# Altium schematic symbol library 2008_SablierElectronique_SCHLIB.SchLib: 24 symbols
Pins are listed as number, name and electrical type; pins without a type are passive.

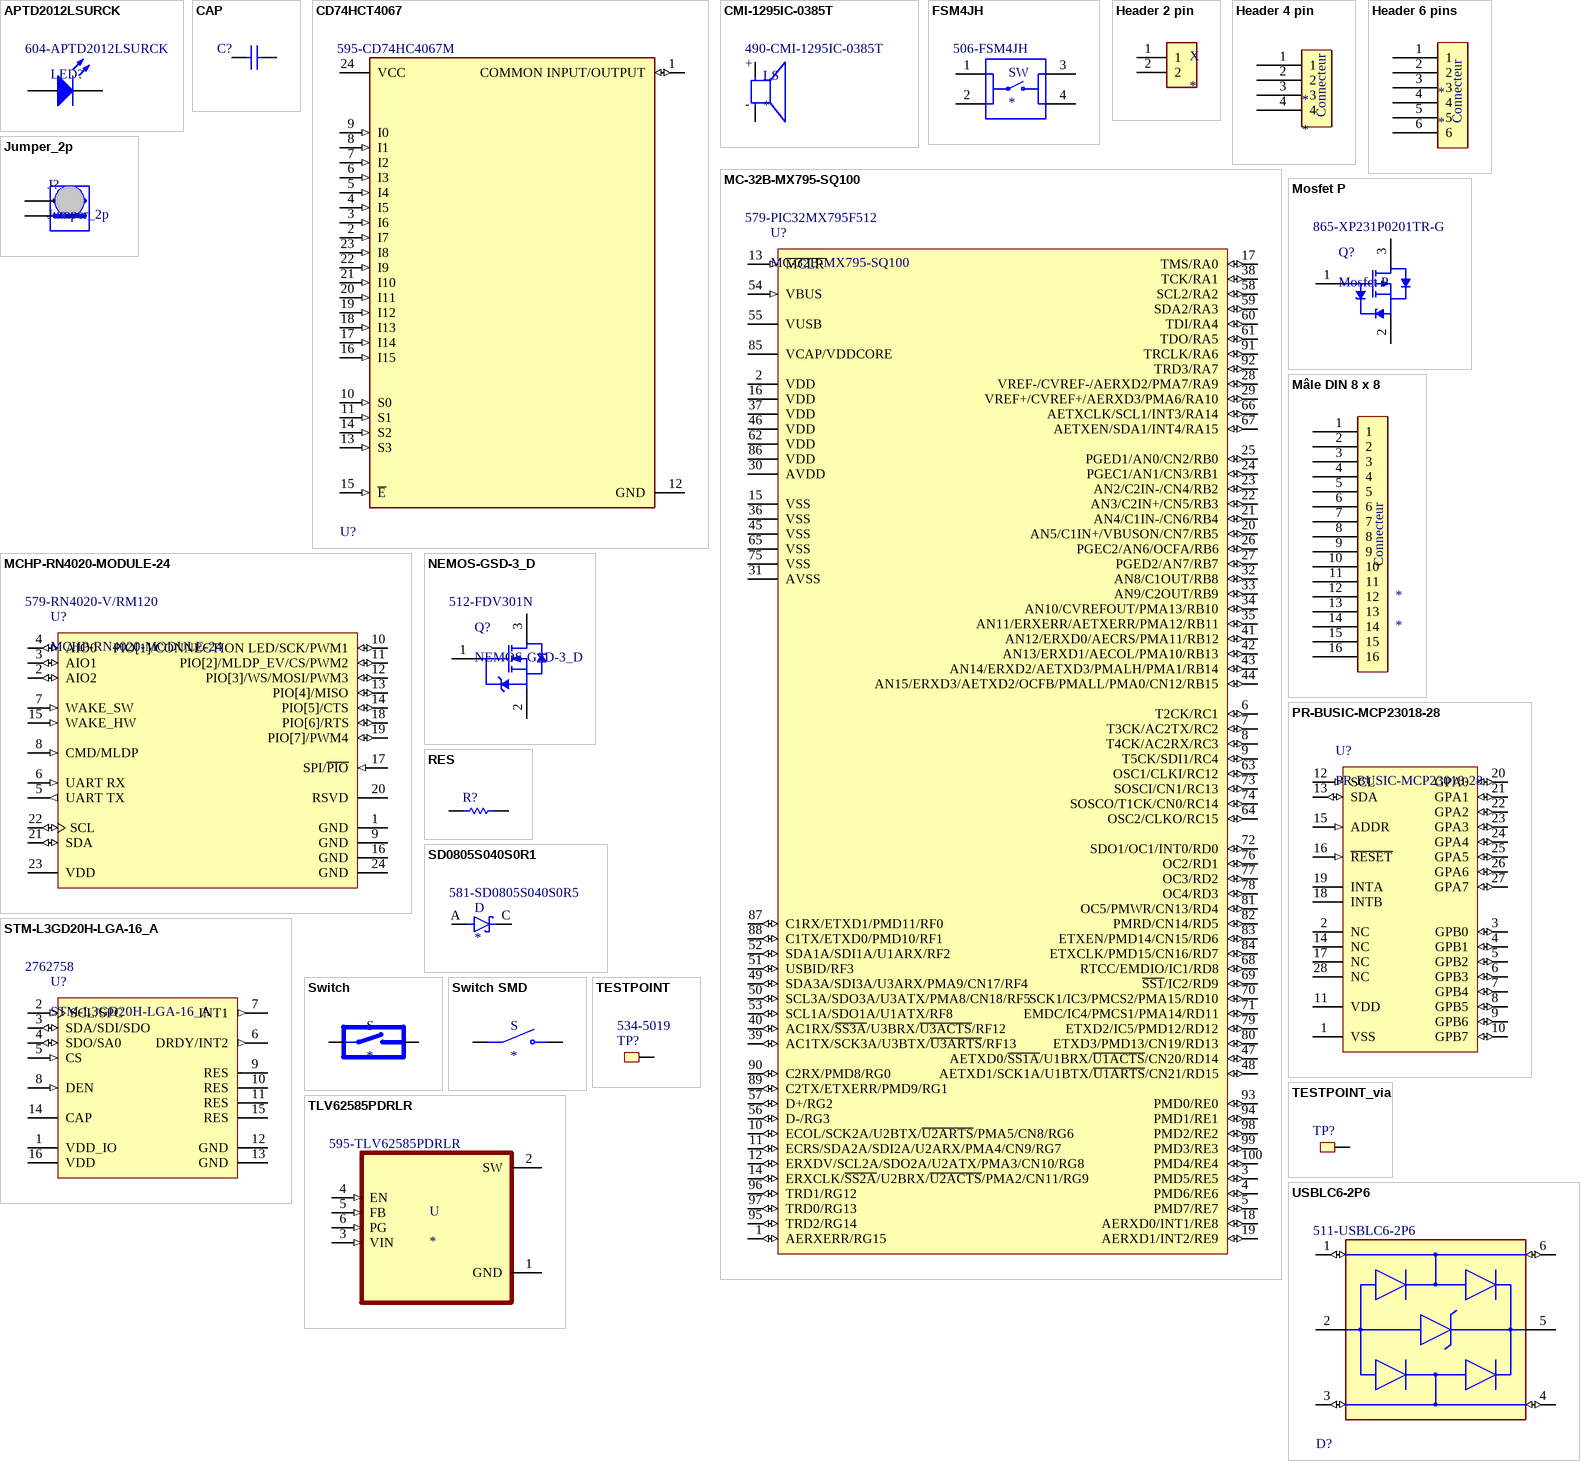
[diagram p0: symbols APTD2012LSURCK to USBLC6-2P6]

## APTD2012LSURCK
designator LED?  Supplier Part Number 1: 604-APTD2012LSURCK
Supplier 1: Mouser
footprint 0805_LED (Chip LED, 2-Leads, Body 2.0x1.3mm, IPC Medium Density)
pins: 1 K, 2 A

## CAP
designator C?
footprint RESC0805(2012)_L (Chip Resistor, Body 2.0x1.3mm, IPC High Density)
pins: 1, 2
1 alternate drawing of the same symbol

## CD74HCT4067
designator U?  Supplier Part Number 1: 595-CD74HC4067M  (hidden comment: CD74HCT4067)
Supplier 1: Mouser
footprint SOIC24
pins: 1 COMMON INPUT/OUTPUT (io), 2 I7 (in), 3 I6 (in), 4 I5 (in), 5 I4 (in), 6 I3 (in), 7 I2 (in), 8 I1 (in), 9 I0 (in), 10 S0 (in), 11 S1 (in), 12 GND (power), 13 S3 (in), 14 S2 (in), 15 ~{E} (in), 16 I15 (in), 17 I14 (in), 18 I13 (in), 19 I12 (in), 20 I11 (in), 21 I10 (in), 22 I9 (in), 23 I8 (in), 24 VCC (power)

## CMI-1295IC-0385T
designator LS  Supplier Part Number 1: 490-CMI-1295IC-0385T
12 mm, 3 Vdc, 85 dB, Through Hole, Driving Circuit, Magnetic Audio Indicator Buzzer; MF: CUI Devices; MP: CMI-1295IC-0385T; Price: None; Value: *; Package: Package; Availability: Unavailable; SnapEDA_Link: https://www.snapeda.com/parts/CMI-1295IC-0385T/CUI%20Devices/view-part/4413411/?ref=snap; Supplier 1: Mouser
footprint CUI_CMI-1295IC-0385T
pins: N, P
text: +; -

## FSM4JH
designator SW  Supplier Part Number 1: 506-FSM4JH
Switch Push Button OFF _ON_ SPST Round Button 0.05A 24VDC Momentary Contact PC Pins Thru-Hole; Configuration_Pole-Throw: Single Pole - Single Throw; MF: TE Connectivity; Contact_Current_Rating: 50 mA; MP: 1825910-6; Digi-Key_Purchase_URL: https://www.digikey.com/product-detail/en/te-connectivity-alcoswitch-switches/1825910-6/450-1650-ND/1632536?utm_source=snapeda&utm_medium=aggregator&utm_campaign=symbol; TE_purchase_URL: https://www.te.com/usa-en/product-1825910-6.html?te_bu=Cor&te_type=disp&te_campaign=seda_glo_cor-seda-global-disp-prtnr-fy19-seda-model-bom-cta_sma-317_1&elqCampaignId=32493; Value: *; Digi-Key_Part_Number: 450-1650-ND; SnapEDA_Link: https://www.snapeda.com/parts/1825910-6/TE%20Connectivity%20ALCOSWITCH%20Switches/view-part/424522/?ref=snap; EU_RoHS_Compliance: Compliant; Package: None; Supplier 1: Mouser
footprint SW_FSM4JH
pins: 1, 2, 3, 4

## Header 2 pin
designator X
Connector Header Through Hole 2 position; MF: TE Connectivity; MP: 826632-1; Mouser-Purchase-URL: https://snapeda.com/shop?store=Mouser&id=2390280; Package: None; Value: *; SnapEDA_Link: https://www.snapeda.com/parts/826632-1/TE%20Connectivity%20AMP%20Connectors/view-part/2390280/?ref=snap; Price: None; DigiKey-Purchase-URL: https://snapeda.com/shop?store=DigiKey&id=2390280; Availability: Unavailable; EU_RoHS_Compliance: Compliant
footprint Header 2 pin
pins: 1, 2

## Header 4 pin
designator *
footprint CON4 (2.54mm pitch, 16 pin, header;shrouded)
pins: 1, 2, 3, 4
text: Connecteur

## Header 6 pins
designator *
footprint CON6 (2.54mm pitch, 16 pin, header;shrouded)
pins: 1, 2, 3, 4, 5, 6
text: Connecteur

## Jumper_2p
designator J?
footprint Jumper (Jumper SMD)
pins: 1, 2

## MC-32B-MX795-SQ100
designator U?  Supplier Part Number 1: 579-PIC32MX795F512
Supplier 1: Mouser
footprint TQFP-PT100_N (Thin QFP, 100-Leads, Body 12x12mm, Pitch 0.4mm, IPC Medium Density)
pins: 1 AERXERR/RG15 (io), 2 VDD (power), 3 PMD5/RE5 (io), 4 PMD6/RE6 (io), 5 PMD7/RE7 (io), 6 T2CK/RC1 (io), 7 T3CK/AC2TX/RC2 (io), 8 T4CK/AC2RX/RC3 (io), 9 T5CK/SDI1/RC4 (io), 10 ECOL/SCK2A/U2BTX/~{U2ARTS}/PMA5/CN8/RG6 (io), 11 ECRS/SDA2A/SDI2A/U2ARX/PMA4/CN9/RG7 (io), 12 ERXDV/SCL2A/SDO2A/U2ATX/PMA3/CN10/RG8 (io), 13 ~{MCLR} (in), 14 ERXCLK/~{SS2A}/U2BRX/~{U2ACTS}/PMA2/CN11/RG9 (io), 15 VSS (power), 16 VDD (power), 17 TMS/RA0 (io), 18 AERXD0/INT1/RE8 (io), 19 AERXD1/INT2/RE9 (io), 20 AN5/C1IN+/VBUSON/CN7/RB5 (io), 21 AN4/C1IN-/CN6/RB4 (io), 22 AN3/C2IN+/CN5/RB3 (io), 23 AN2/C2IN-/CN4/RB2 (io), 24 PGEC1/AN1/CN3/RB1 (io), 25 PGED1/AN0/CN2/RB0 (io), 26 PGEC2/AN6/OCFA/RB6 (io), 27 PGED2/AN7/RB7 (io), 28 VREF-/CVREF-/AERXD2/PMA7/RA9 (io), 29 VREF+/CVREF+/AERXD3/PMA6/RA10 (io), 30 AVDD (power), 31 AVSS (power), 32 AN8/C1OUT/RB8 (io), 33 AN9/C2OUT/RB9 (io), 34 AN10/CVREFOUT/PMA13/RB10 (io), 35 AN11/ERXERR/AETXERR/PMA12/RB11 (io), 36 VSS (power), 37 VDD (power), 38 TCK/RA1 (io), 39 AC1TX/SCK3A/U3BTX/~{U3ARTS}/RF13 (io), 40 AC1RX/~{SS3A}/U3BRX/~{U3ACTS}/RF12 (io), 41 AN12/ERXD0/AECRS/PMA11/RB12 (io), 42 AN13/ERXD1/AECOL/PMA10/RB13 (io), 43 AN14/ERXD2/AETXD3/PMALH/PMA1/RB14 (io), 44 AN15/ERXD3/AETXD2/OCFB/PMALL/PMA0/CN12/RB15 (io), 45 VSS (power), 46 VDD (power), 47 AETXD0/~{SS1A}/U1BRX/~{U1ACTS}/CN20/RD14 (io), 48 AETXD1/SCK1A/U1BTX/~{U1ARTS}/CN21/RD15 (io), 49 SDA3A/SDI3A/U3ARX/PMA9/CN17/RF4 (io), 50 SCL3A/SDO3A/U3ATX/PMA8/CN18/RF5 (io), 51 USBID/RF3 (io), 52 SDA1A/SDI1A/U1ARX/RF2 (io), 53 SCL1A/SDO1A/U1ATX/RF8 (io), 54 VBUS (in), 55 VUSB (power), 56 D-/RG3 (io), 57 D+/RG2 (io), 58 SCL2/RA2 (io), 59 SDA2/RA3 (io), 60 TDI/RA4 (io), 61 TDO/RA5 (io), 62 VDD (power), 63 OSC1/CLKI/RC12 (io), 64 OSC2/CLKO/RC15 (io), 65 VSS (power), 66 AETXCLK/SCL1/INT3/RA14 (io), 67 AETXEN/SDA1/INT4/RA15 (io), 68 RTCC/EMDIO/IC1/RD8 (io), 69 ~{SS1}/IC2/RD9 (io), 70 SCK1/IC3/PMCS2/PMA15/RD10 (io), 71 EMDC/IC4/PMCS1/PMA14/RD11 (io), 72 SDO1/OC1/INT0/RD0 (io), 73 SOSCI/CN1/RC13 (io), 74 SOSCO/T1CK/CN0/RC14 (io), 75 VSS (power), 76 OC2/RD1 (io), 77 OC3/RD2 (io), 78 OC4/RD3 (io), 79 ETXD2/IC5/PMD12/RD12 (io), 80 ETXD3/PMD13/CN19/RD13 (io), 81 OC5/PMWR/CN13/RD4 (io), 82 PMRD/CN14/RD5 (io), 83 ETXEN/PMD14/CN15/RD6 (io), 84 ETXCLK/PMD15/CN16/RD7 (io), 85 VCAP/VDDCORE (power), 86 VDD (power), 87 C1RX/ETXD1/PMD11/RF0 (io), 88 C1TX/ETXD0/PMD10/RF1 (io), 89 C2TX/ETXERR/PMD9/RG1 (io), 90 C2RX/PMD8/RG0 (io), 91 TRCLK/RA6 (io), 92 TRD3/RA7 (io), 93 PMD0/RE0 (io), 94 PMD1/RE1 (io), 95 TRD2/RG14 (io), 96 TRD1/RG12 (io), 97 TRD0/RG13 (io), 98 PMD2/RE2 (io), 99 PMD3/RE3 (io), 100 PMD4/RE4 (io)

## MCHP-RN4020-MODULE-24
designator U?  Supplier Part Number 1: 579-RN4020-V/RM120
Supplier 1: Mouser
footprint MCHP-MODULE-24_V (Module, 24-Leads, Body 11.5x19.5mm, Pitch 1.2mm)
pins: 1 GND (power) "Ground.", 2 AIO2 (io) "Bi-directional with programmable analog I/O.", 3 AIO1 (io) "Bi-directional with programmable analog I/O.", 4 AIO0 (io) "Bi-directional with programmable analog I/O.", 5 UART TX (out) "UART Transmit (TX).", 6 UART RX (in) "UART Receive (RX).", 7 WAKE_SW (in) "Deep Sleep Wake; active-high to wake module from Deep Sleep.", 8 CMD/MLDP (in), 9 GND (power) "Ground.", 10 PIO[1]/CONNECTION LED/SCK/PWM1 (io), 11 PIO[2]/MLDP_EV/CS/PWM2 (io), 12 PIO[3]/WS/MOSI/PWM3 (io), 13 PIO[4]/MISO (io), 14 PIO[5]/CTS (io), 15 WAKE_HW (in) "Hardware wake from Dormant state.", 16 GND (power) "Ground.", 17 SPI/~{PIO} (in) "SPI/P\I\O\ for pins 10-13, active-high.", 18 PIO[6]/RTS (io), 19 PIO[7]/PWM4 (io) "Spare PIO.", 20 RSVD "Do not connect. Factory diagnostics.", 21 SDA (io) "SDA Data line of the I2C interface. The RN4020 always acts as the I2C Master.", 22 SCL (io) "I2C Clock", 23 VDD (power) "Supply voltage.", 24 GND (power) "Ground."

## Mosfet P
designator Q?  Supplier Part Number 1: 865-XP231P0201TR-G
Supplier 1: Mouser
footprint FAIR-SOT23-3_V (SOT23, 3-Leads, Body 2.92x1.3mm, Pitch 0.95mm)
pins: 1 G "gate", 2 S "source", 3 D "drain"

## Mâle DIN 8 x 8
designator *
footprint CON8x8(edited) (2.54mm pitch, 16 pin, header;shrouded)
pins: 1, 2, 3, 4, 5, 6, 7, 8, 9, 10, 11, 12, 13, 14, 15, 16
text: Connecteur

## NEMOS-GSD-3_D
designator Q?  Supplier Part Number 1: 512-FDV301N
Supplier 1: Mouser
footprint FAIR-SOT23-3_V (SOT23, 3-Leads, Body 2.92x1.3mm, Pitch 0.95mm)
pins: 1 G, 2 S, 3 D

## PR-BUSIC-MCP23018-28
designator U?
footprint SOIC-SO28_N (SOIC, 28-Leads, Body 17.9x7.5mm, Pitch 1.27mm, IPC Medium Density)
pins: 1 VSS (power), 2 NC, 3 GPB0 (io), 4 GPB1 (io), 5 GPB2 (io), 6 GPB3 (io), 7 GPB4 (io), 8 GPB5 (io), 9 GPB6 (io), 10 GPB7 (io), 11 VDD (power), 12 SCL (in), 13 SDA (io), 14 NC, 15 ADDR (in), 16 ~{RESET} (in), 17 NC, 18 INTB (oc), 19 INTA (oc), 20 GPA0 (io), 21 GPA1 (io), 22 GPA2 (io), 23 GPA3 (io), 24 GPA4 (io), 25 GPA5 (io), 26 GPA6 (io), 27 GPA7 (io), 28 NC

## RES
designator R?  (value not drawn)
footprint RESC0805(2012)_L (Chip Resistor, Body 2.0x1.3mm, IPC High Density)
pins: 1, 2
1 alternate drawing of the same symbol

## SD0805S040S0R1
designator D  Supplier Part Number 1: 581-SD0805S040S0R5
Diode Schottky 40V 100mA (DC) Surface Mount 0805 (2012 Metric); MF: AVX; MP: SD0805S040S0R1; DigiKey-Purchase-URL: https://snapeda.com/shop?store=DigiKey&id=809038; Arrow_Electronics-Purchase-URL: https://snapeda.com/shop?store=Arrow+Electronics&id=809038; Availability: Good; Price: None; Value: *; SnapEDA_Link: https://www.snapeda.com/parts/SD0805S040S0R1/AVX/view-part/809038/?ref=snap; Package: 0805 AVX; Mouser-Purchase-URL: https://snapeda.com/shop?store=Mouser&id=809038; Supplier 1: Mouser
footprint DIOSC130X200X100-2N
pins: A, C K

## STM-L3GD20H-LGA-16_A
designator U?  Supplier Part Number 1: 2762758
Supplier 1: Farnell
footprint STM-LGA-16 (LGA, 16-Leads, Body 3x3mm, Pitch 0.5mm)
pins: 1 VDD_IO (power) "Power supply for I/O pins", 2 SCL/SPC (in), 3 SDA/SDI/SDO (io), 4 SDO/SA0 (io), 5 CS (in) "I2C/SPI mode selection (1: SPI idle mode / I2C communication enabled; 0: SPI communication mode / I2C disabled)", 6 DRDY/INT2 (out), 7 INT1 (out) "Programmable interrupt", 8 DEN (in) "Gyroscope data enable", 9 RES "Connect to GND", 10 RES "Connect to GND", 11 RES "Connect to GND or VDD", 12 GND (power) "0 V supply", 13 GND (power) "0 V supply", 14 CAP "Connect to GND with ceramic capacitor", 15 RES "Connect to GND or VDD", 16 VDD (power) "Power supply"

## Switch
designator S
Switch Push Button N.O. SPST Round Button 0.05A 12VDC 1VA Alternate Contact Gull Wing SMD T/R; MP: FSM6JSMATR; MF: TE Connectivity; SnapEDA_Link: https://www.snapeda.com/parts/FSM6JSMATR/TE%20Connectivity%20ALCOSWITCH%20Switches/view-part/518064/?ref=snap; Price: None; TE_purchase_URL: https://www.te.com/usa-en/product-5-1437565-0.html?te_bu=Cor&te_type=disp&te_campaign=seda_glo_cor-seda-global-disp-prtnr-fy19-seda-model-bom-cta_sma-317_1&elqCampaignId=32493; Value: *; Availability: Unavailable; Package: None
footprint Header 2 pin
pins: 1 2, 2, 3 1, 4 1

## Switch SMD
designator S
Switch Surface Mount; MP: PTS526 SM08 SMTR2 LFS; MF: C&K; Price: None; Value: *; Package: None; SnapEDA_Link: https://www.snapeda.com/parts/PTS526%20SM08%20SMTR2%20LFS/C&K/view-part/4000306/?ref=snap; Availability: Unavailable
footprint Header 2 pin
pins: 1, 2

## TESTPOINT
designator TP?, comment Supplier Part Number 1: 534-5019  (hidden comment: 5019)
Test point smd; Supplier 1: Mouser
footprint TESTPOINT_SMD
pins: 1

## TESTPOINT_via
designator TP?, comment 5019  (value not drawn)
Test point smd
footprint TESTPOINT_SMD_Via
pins: 1

## TLV62585PDRLR
designator U  Supplier Part Number 1: 595-TLV62585PDRLR
2.5V-5.5V input, 3-A high efficiency step-down converter in 2x2 QFN or SOT563 package 6-SOT-5X3 -40 to 125; MP: TLV62585PDRLR; MF: Texas Instruments; Package: SOT-5X3-6 Texas Instruments; Availability: Good; Texas_Instruments-Purchase-URL: https://snapeda.com/shop?store=Texas+Instruments&id=3229753; Arrow_Electronics-Purchase-URL: https://snapeda.com/shop?store=Arrow+Electronics&id=3229753; SnapEDA_Link: https://www.snapeda.com/parts/TLV62585PDRLR/Texas%20Instruments/view-part/3229753/?ref=snap; Mouser-Purchase-URL: https://snapeda.com/shop?store=Mouser&id=3229753; Value: *; Price: None; Supplier 1: Mouser
footprint SOT563 (SOT563, 6-Leads, Body 1.6x1.6mm, Pitch 0.5mm)
pins: 1 GND (power), 2 SW (power), 3 VIN (in), 4 EN (in), 5 FB (in), 6 PG (in)

## USBLC6-2P6
designator D?  Supplier Part Number 1: 511-USBLC6-2P6  (hidden comment: USBLC6-2P6)
Supplier 1: Mouser
footprint FP-SOT-666-MFG
pins: 1 I/O1 (io), 2 GND (power), 3 I/O2 (io), 4 I/O2 (io), 5 VBUS (power), 6 I/O1 (io)